# Altium schematic symbol library SparkFun-MicroMod.SCHLIB: 4 symbols
Pins are listed as number, name and electrical type; pins without a type are passive.

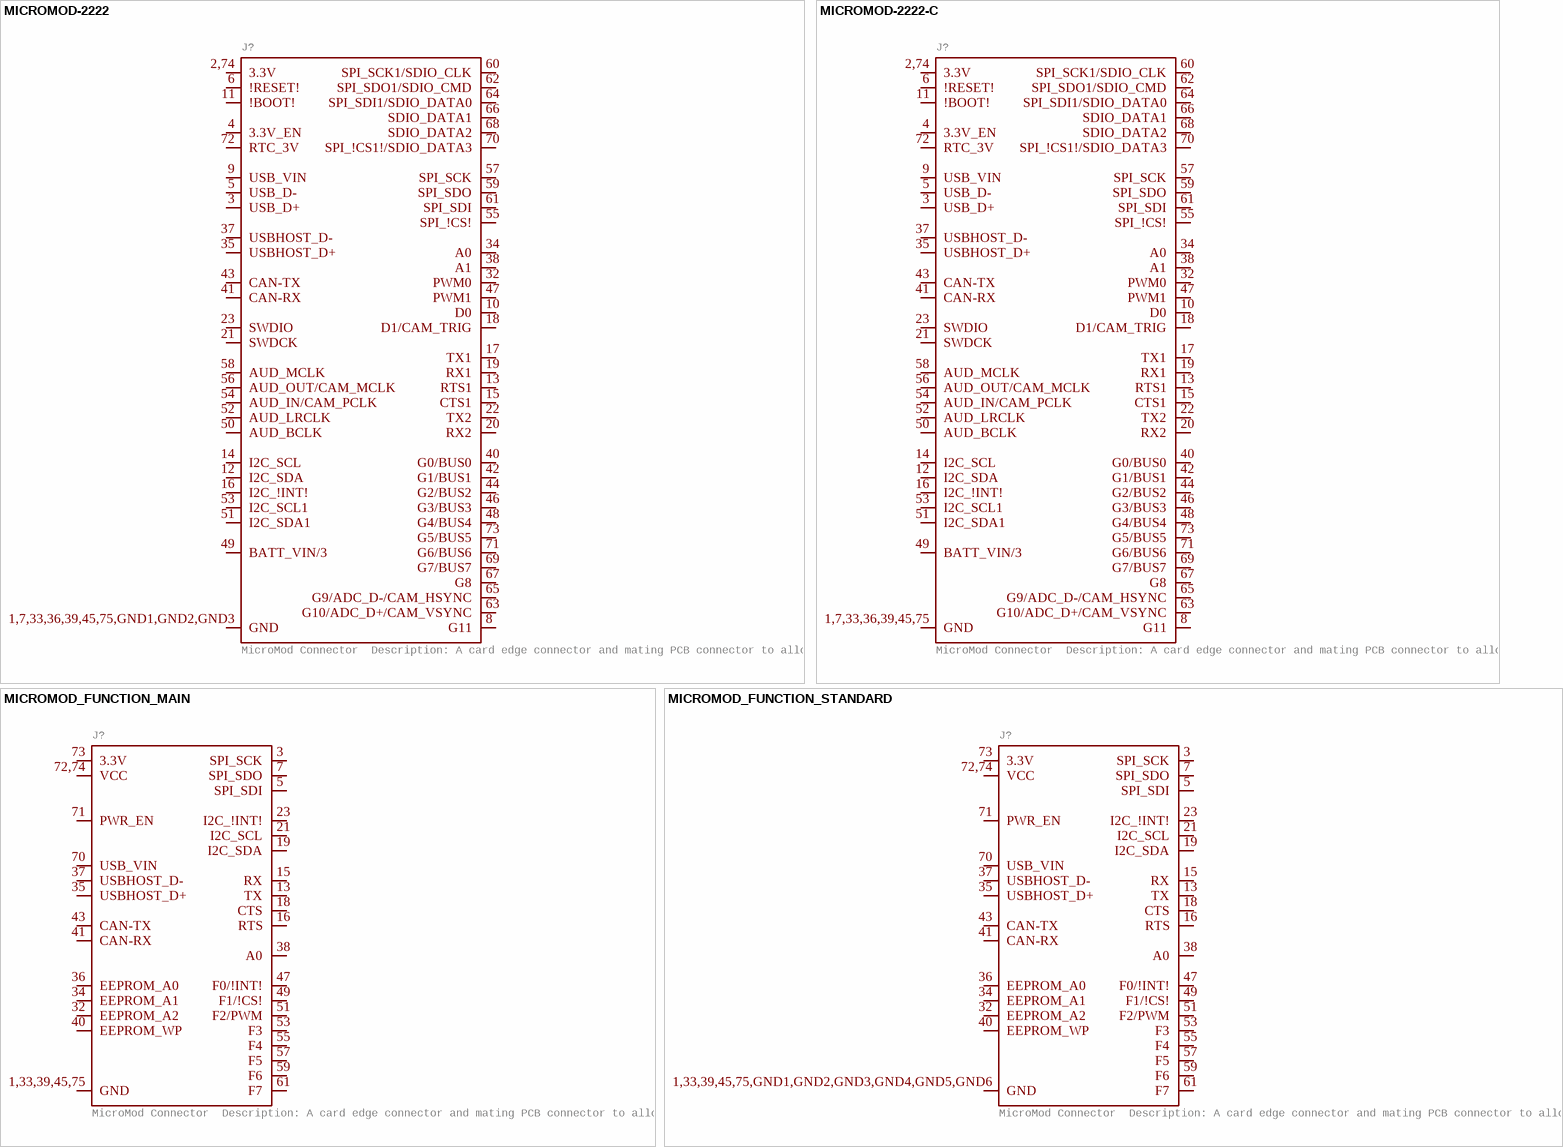
[diagram p0: symbols MICROMOD-2222 to MICROMOD_FUNCTION_STANDARD]

## MICROMOD-2222
designator J?, comment MicroMod Connector  Description: A card edge connector and mating PCB connector to allow various MicroMod Processor Boards to be coupled with various carrier boards of different capabilities. Based on the M.2 standard.
GateName_1: J1; DeviceName: -2222; SymbolName_1: MICROMOD; LibraryName: SparkFun-MicroMod; DeviceSetName: MICROMOD; Package: M.2-CARD-E-22
footprint M.2-CARD-E-22
pins: 1,7,33,36,39,45,75,GND1,GND2,GND3 GND (io), 2,74 3.3V (io), 3 USB_D+ (io), 4 3.3V_EN (io), 5 USB_D- (io), 6 !RESET! (io), 8 G11 (io), 9 USB_VIN (io), 10 D0 (io), 11 !BOOT! (io), 12 I2C_SDA (io), 13 RTS1 (io), 14 I2C_SCL (io), 15 CTS1 (io), 16 I2C_!INT! (io), 17 TX1 (io), 18 D1/CAM_TRIG (io), 19 RX1 (io), 20 RX2 (io), 21 SWDCK (io), 22 TX2 (io), 23 SWDIO (io), 32 PWM0 (io), 34 A0 (io), 35 USBHOST_D+ (io), 37 USBHOST_D- (io), 38 A1 (io), 40 G0/BUS0 (io), 41 CAN-RX (io), 42 G1/BUS1 (io), 43 CAN-TX (io), 44 G2/BUS2 (io), 46 G3/BUS3 (io), 47 PWM1 (io), 48 G4/BUS4 (io), 49 BATT_VIN/3 (io), 50 AUD_BCLK (io), 51 I2C_SDA1 (io), 52 AUD_LRCLK (io), 53 I2C_SCL1 (io), 54 AUD_IN/CAM_PCLK (io), 55 SPI_!CS! (io), 56 AUD_OUT/CAM_MCLK (io), 57 SPI_SCK (io), 58 AUD_MCLK (io), 59 SPI_SDO (io), 60 SPI_SCK1/SDIO_CLK (io), 61 SPI_SDI (io), 62 SPI_SDO1/SDIO_CMD (io), 63 G10/ADC_D+/CAM_VSYNC (io), 64 SPI_SDI1/SDIO_DATA0 (io), 65 G9/ADC_D-/CAM_HSYNC (io), 66 SDIO_DATA1 (io), 67 G8 (io), 68 SDIO_DATA2 (io), 69 G7/BUS7 (io), 70 SPI_!CS1!/SDIO_DATA3 (io), 71 G6/BUS6 (io), 72 RTC_3V (io), 73 G5/BUS5 (io)

## MICROMOD-2222-C
designator J?, comment MicroMod Connector  Description: A card edge connector and mating PCB connector to allow various MicroMod Processor Boards to be coupled with various carrier boards of different capabilities. Based on the M.2 standard.
GateName_1: J1; DeviceName: -2222-C; PROD_ID: CONN-14877; SymbolName_1: MICROMOD; LibraryName: SparkFun-MicroMod; DeviceSetName: MICROMOD; Package: M.2-CONNECTOR-E
footprint M.2-CONNECTOR-E
pins: 1,7,33,36,39,45,75 GND (io), 2,74 3.3V (io), 3 USB_D+ (io), 4 3.3V_EN (io), 5 USB_D- (io), 6 !RESET! (io), 8 G11 (io), 9 USB_VIN (io), 10 D0 (io), 11 !BOOT! (io), 12 I2C_SDA (io), 13 RTS1 (io), 14 I2C_SCL (io), 15 CTS1 (io), 16 I2C_!INT! (io), 17 TX1 (io), 18 D1/CAM_TRIG (io), 19 RX1 (io), 20 RX2 (io), 21 SWDCK (io), 22 TX2 (io), 23 SWDIO (io), 32 PWM0 (io), 34 A0 (io), 35 USBHOST_D+ (io), 37 USBHOST_D- (io), 38 A1 (io), 40 G0/BUS0 (io), 41 CAN-RX (io), 42 G1/BUS1 (io), 43 CAN-TX (io), 44 G2/BUS2 (io), 46 G3/BUS3 (io), 47 PWM1 (io), 48 G4/BUS4 (io), 49 BATT_VIN/3 (io), 50 AUD_BCLK (io), 51 I2C_SDA1 (io), 52 AUD_LRCLK (io), 53 I2C_SCL1 (io), 54 AUD_IN/CAM_PCLK (io), 55 SPI_!CS! (io), 56 AUD_OUT/CAM_MCLK (io), 57 SPI_SCK (io), 58 AUD_MCLK (io), 59 SPI_SDO (io), 60 SPI_SCK1/SDIO_CLK (io), 61 SPI_SDI (io), 62 SPI_SDO1/SDIO_CMD (io), 63 G10/ADC_D+/CAM_VSYNC (io), 64 SPI_SDI1/SDIO_DATA0 (io), 65 G9/ADC_D-/CAM_HSYNC (io), 66 SDIO_DATA1 (io), 67 G8 (io), 68 SDIO_DATA2 (io), 69 G7/BUS7 (io), 70 SPI_!CS1!/SDIO_DATA3 (io), 71 G6/BUS6 (io), 72 RTC_3V (io), 73 G5/BUS5 (io)

## MICROMOD_FUNCTION_MAIN
designator J?, comment MicroMod Connector  Description: A card edge connector and mating PCB connector to allow various MicroMod Processor Boards to be coupled with various carrier boards of different capabilities. Based on the M.2 standard.
GateName_1: J1; SymbolName_1: MICROMOD_FUNCTION; DeviceName: _MAIN; PROD_ID: CONN-14877; LibraryName: SparkFun-MicroMod; DeviceSetName: MICROMOD_FUNCTION; Package: M.2-CONNECTOR-E-FUNCTION-STANDARD
footprint M.2-CONNECTOR-E-FUNCTION-STANDARD
pins: 1,33,39,45,75 GND (io), 3 SPI_SCK (io), 5 SPI_SDI (io), 7 SPI_SDO (io), 13 TX (io), 15 RX (io), 16 RTS (io), 18 CTS (io), 19 I2C_SDA (io), 21 I2C_SCL (io), 23 I2C_!INT! (io), 32 EEPROM_A2 (io), 34 EEPROM_A1 (io), 35 USBHOST_D+ (io), 36 EEPROM_A0 (io), 37 USBHOST_D- (io), 38 A0 (io), 40 EEPROM_WP (io), 41 CAN-RX (io), 43 CAN-TX (io), 47 F0/!INT! (io), 49 F1/!CS! (io), 51 F2/PWM (io), 53 F3 (io), 55 F4 (io), 57 F5 (io), 59 F6 (io), 61 F7 (io), 70 USB_VIN (io), 71 PWR_EN (io), 72,74 VCC (io), 73 3.3V (io)

## MICROMOD_FUNCTION_STANDARD
designator J?, comment MicroMod Connector  Description: A card edge connector and mating PCB connector to allow various MicroMod Processor Boards to be coupled with various carrier boards of different capabilities. Based on the M.2 standard.
GateName_1: J1; SymbolName_1: MICROMOD_FUNCTION; DeviceName: _STANDARD; LibraryName: SparkFun-MicroMod; DeviceSetName: MICROMOD_FUNCTION; Package: M.2-CARD-E-22_FUNCTION_STANDARD
footprint M.2-CARD-E-22_FUNCTION_STANDARD
pins: 1,33,39,45,75,GND1,GND2,GND3,GND4,GND5,GND6 GND (io), 3 SPI_SCK (io), 5 SPI_SDI (io), 7 SPI_SDO (io), 13 TX (io), 15 RX (io), 16 RTS (io), 18 CTS (io), 19 I2C_SDA (io), 21 I2C_SCL (io), 23 I2C_!INT! (io), 32 EEPROM_A2 (io), 34 EEPROM_A1 (io), 35 USBHOST_D+ (io), 36 EEPROM_A0 (io), 37 USBHOST_D- (io), 38 A0 (io), 40 EEPROM_WP (io), 41 CAN-RX (io), 43 CAN-TX (io), 47 F0/!INT! (io), 49 F1/!CS! (io), 51 F2/PWM (io), 53 F3 (io), 55 F4 (io), 57 F5 (io), 59 F6 (io), 61 F7 (io), 70 USB_VIN (io), 71 PWR_EN (io), 72,74 VCC (io), 73 3.3V (io)